# EAGLE library part 74AUP1G19GW (library Shared Libraries)
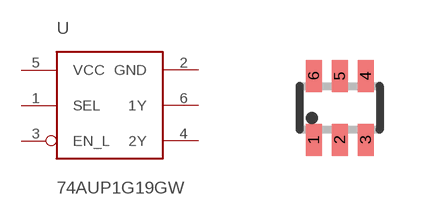
[diagram p12: symbol with the pads of SOT363_PHILIPS; footprint SOT363_PHILIPS]

Designator prefix U

## 74AUP1G19GW  [SOT363_PHILIPS]
1  SEL
2  GND
3  EN_L
4  2Y
5  VCC
6  1Y

## Footprint SOT363_PHILIPS (pad centres in mm)
Small Outline Transistor; 6 leads Philips Semiconductors, SOT363.pdf
smd 0.4 x 0.8: 1 -0.65,-0.8; 2 0,-0.8; 3 0.65,-0.8; 4 0.65,0.8; 5 0,0.8; 6 -0.65,0.8